# Altium footprint library Package_TO_SOT_THT.PcbLib: 236 footprints (part 6 of 15)
Each footprint in its own frame and in the unit in brackets; x right, y up, seen from the top. Pads: shape width x height; smd on the part's side, far side on the other; paste and mask are expansions set on the pad; w line width, h text height; cw(c..) or ccw(c..) is an arc to the next point about the centre after c.
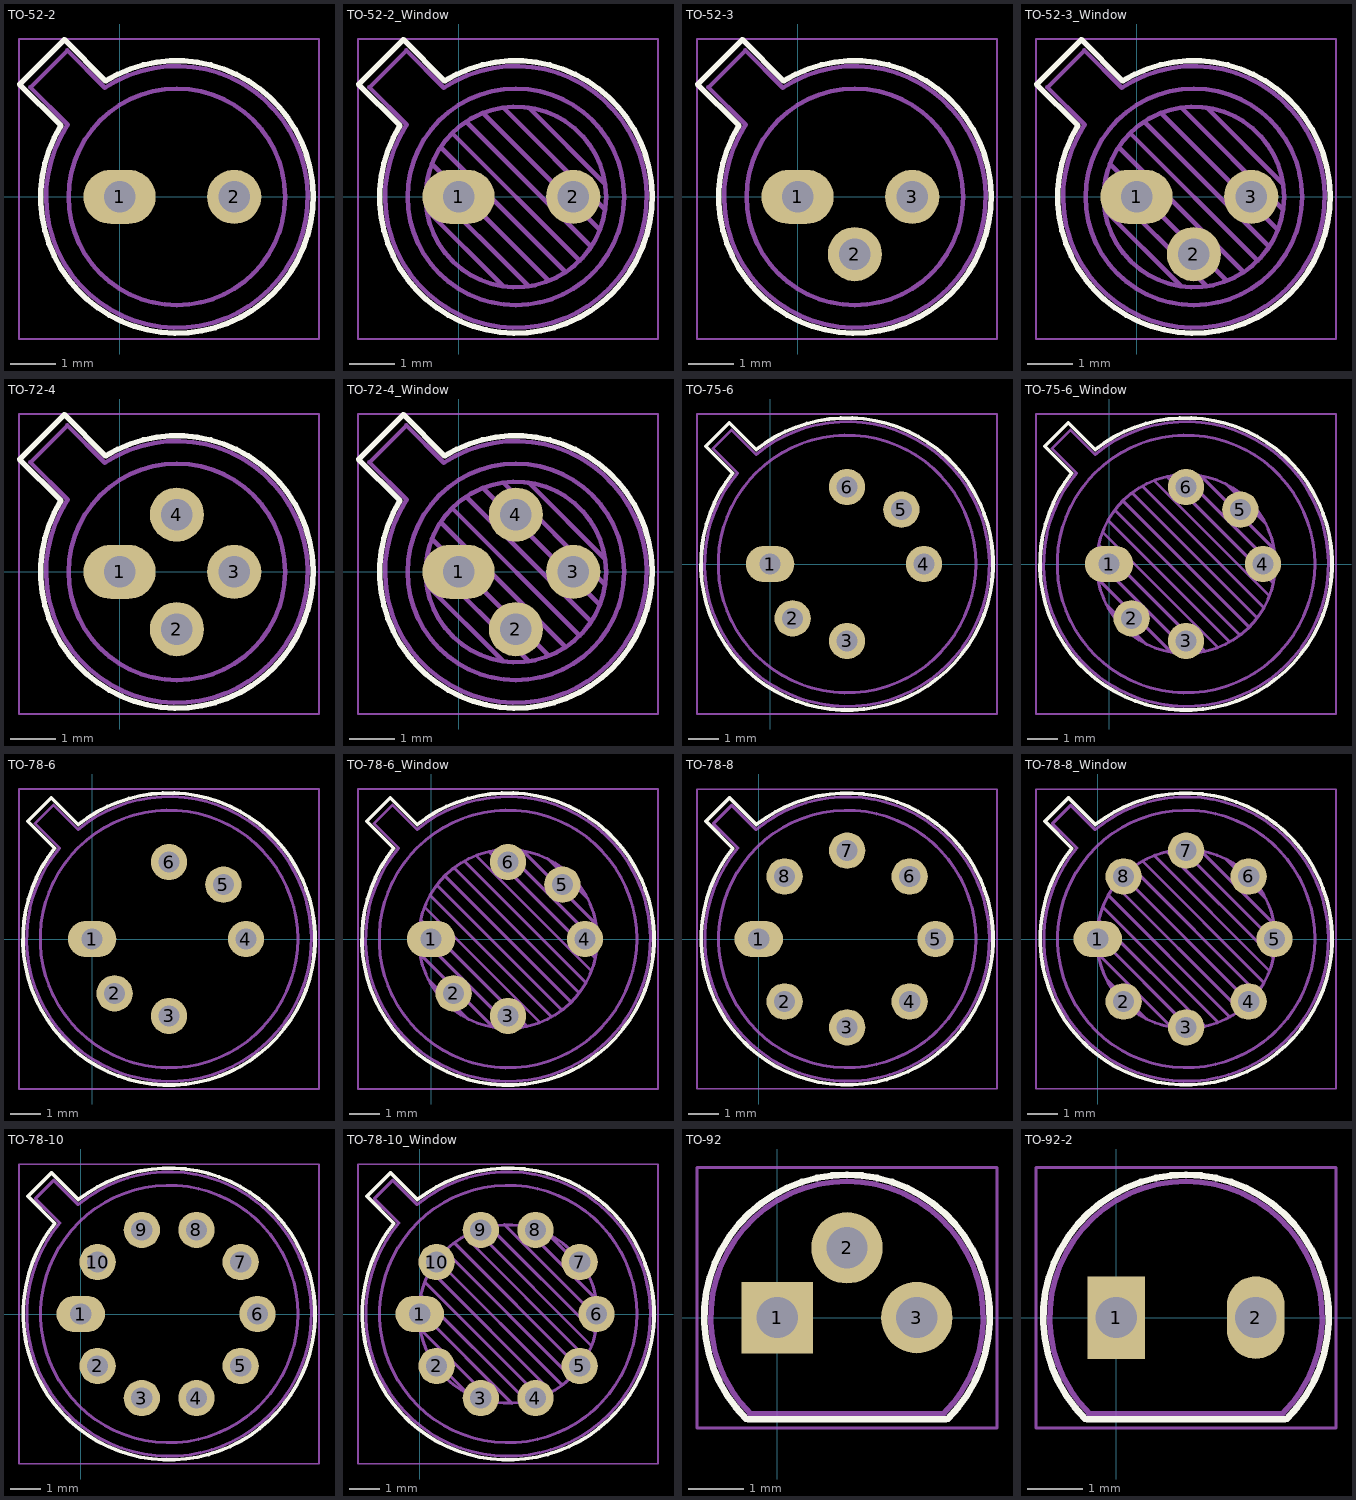
[diagram p5: the footprints below, top view; thin cyan lines are the x and y axes]

## TO-52-2 [mm]
pads (2):
  rrect100% 1.6x1.2 hole 0.7: 1(0,0)
  rrect100% 1.2x1.2 hole 0.7: 2(2.54,0)
F.SilkS:
  lines w0.12: -2.214,2.494 -1.224,3.484 -0.312,2.572 cw(c1.27,0) -1.302,1.583 -2.214,2.494
F.CrtYd:
  lines w0.05: -2.23,-3.15 -2.23,3.5 4.42,3.5 4.42,-3.15 -2.23,-3.15
F.Fab:
  circle w0.1: c1.27,0 r2.4
  lines w0.1: -1.15,1.598 ccw(c1.27,0) -0.329,2.419 -1.156,3.247 -1.977,2.426 -1.149,1.599
  text "'.Designator'" at -2.777,3.18 h1

## TO-52-2_Window [mm]
pads (2):
  rrect100% 1.6x1.2 hole 0.7: 1(0,0)
  rrect100% 1.2x1.2 hole 0.7: 2(2.54,0)
F.SilkS:
  lines w0.12: -2.214,2.494 -1.302,1.582 ccw(c1.27,0) -0.312,2.572 -1.224,3.484 -2.214,2.494
F.CrtYd:
  lines w0.05: -2.23,-3.15 4.42,-3.15 4.42,3.5 -2.23,3.5 -2.23,-3.15
F.Fab:
  circle w0.1: c1.27,0 r2
  circle w0.1: c1.27,0 r2.4
  lines w0.1: -1.15,1.598 ccw(c1.27,0) -0.329,2.419 -1.156,3.247 -1.977,2.426 -1.149,1.599 ; -0.71,-0.283 0.987,-1.98 ; -0.71,0.283 1.553,-1.98 ; -0.592,0.731 2.001,-1.862 ; -0.399,1.103 2.373,-1.669 ; -0.145,1.415 2.685,-1.415 ; 0.167,1.669 2.939,-1.103 ; 0.539,1.862 3.132,-0.731 ; 0.987,1.98 3.25,-0.283 ; 1.553,1.98 3.25,0.283
  text "'.Designator'" at -2.777,3.18 h1

## TO-52-3 [mm]
pads (3):
  rrect100% 1.6x1.2 hole 0.7: 1(0,0)
  rrect100% 1.2x1.2 hole 0.7: 2(1.27,-1.27) 3(2.54,0)
F.SilkS:
  lines w0.12: -2.214,2.494 -1.302,1.582 ccw(c1.27,0) -0.312,2.572 -1.224,3.484 -2.214,2.494
F.CrtYd:
  lines w0.05: -2.23,-3.15 -2.23,3.5 4.42,3.5 4.42,-3.15 -2.23,-3.15
F.Fab:
  circle w0.1: c1.27,0 r2.4
  lines w0.1: -1.15,1.598 ccw(c1.27,0) -0.329,2.419 -1.156,3.247 -1.977,2.426 -1.149,1.599
  text "'.Designator'" at -2.777,3.18 h1

## TO-52-3_Window [mm]
pads (3):
  rrect100% 1.6x1.2 hole 0.7: 1(0,0)
  rrect100% 1.2x1.2 hole 0.7: 2(1.27,-1.27) 3(2.54,0)
F.SilkS:
  lines w0.12: -2.214,2.494 -1.224,3.484 -0.312,2.572 cw(c1.27,0) -1.302,1.583 -2.214,2.494
F.CrtYd:
  lines w0.05: -2.23,-3.15 4.42,-3.15 4.42,3.5 -2.23,3.5 -2.23,-3.15
F.Fab:
  circle w0.1: c1.27,0 r2
  circle w0.1: c1.27,0 r2.4
  lines w0.1: -1.15,1.598 ccw(c1.27,0) -0.329,2.419 -1.156,3.247 -1.977,2.426 -1.149,1.599 ; -0.71,-0.283 0.987,-1.98 ; -0.71,0.283 1.553,-1.98 ; -0.592,0.731 2.001,-1.862 ; -0.399,1.103 2.373,-1.669 ; -0.145,1.415 2.685,-1.415 ; 0.167,1.669 2.939,-1.103 ; 0.539,1.862 3.132,-0.731 ; 0.987,1.98 3.25,-0.283 ; 1.553,1.98 3.25,0.283
  text "'.Designator'" at -2.777,3.18 h1

## TO-72-4 [mm]
pads (4):
  rrect100% 1.6x1.2 hole 0.7: 1(0,0)
  rrect100% 1.2x1.2 hole 0.7: 2(1.27,-1.27) 3(2.54,0) 4(1.27,1.27)
F.SilkS:
  lines w0.12: -2.214,2.494 -1.302,1.582 ccw(c1.27,0) -0.312,2.572 -1.224,3.484 -2.214,2.494
F.CrtYd:
  lines w0.05: -2.23,-3.15 -2.23,3.5 4.42,3.5 4.42,-3.15 -2.23,-3.15
F.Fab:
  circle w0.1: c1.27,0 r2.4
  lines w0.1: -1.15,1.598 ccw(c1.27,0) -0.329,2.419 -1.156,3.247 -1.977,2.426 -1.149,1.599
  text "'.Designator'" at -2.777,3.18 h1

## TO-72-4_Window [mm]
pads (4):
  rrect100% 1.6x1.2 hole 0.7: 1(0,0)
  rrect100% 1.2x1.2 hole 0.7: 2(1.27,-1.27) 3(2.54,0) 4(1.27,1.27)
F.SilkS:
  lines w0.12: -2.214,2.494 -1.224,3.484 -0.312,2.572 cw(c1.27,0) -1.302,1.583 -2.214,2.494
F.CrtYd:
  lines w0.05: -2.23,-3.15 4.42,-3.15 4.42,3.5 -2.23,3.5 -2.23,-3.15
F.Fab:
  circle w0.1: c1.27,0 r2.4
  circle w0.1: c1.27,0 r2
  lines w0.1: -1.15,1.598 ccw(c1.27,0) -0.329,2.419 -1.156,3.247 -1.977,2.426 -1.149,1.599 ; -0.71,-0.283 0.987,-1.98 ; -0.71,0.283 1.553,-1.98 ; -0.592,0.731 2.001,-1.862 ; -0.399,1.103 2.373,-1.669 ; -0.145,1.415 2.685,-1.415 ; 0.167,1.669 2.939,-1.103 ; 0.539,1.862 3.132,-0.731 ; 0.987,1.98 3.25,-0.283 ; 1.553,1.98 3.25,0.283
  text "'.Designator'" at -2.777,3.18 h1

## TO-75-6 [mm]
pads (6):
  rrect100% 1.6x1.2 hole 0.7: 1(0,0)
  rrect100% 1.2x1.2 hole 0.7: 2(0.744,-1.796) 3(2.54,-2.54) 4(5.08,0) 5(4.336,1.796) 6(2.54,2.54)
F.SilkS:
  lines w0.12: -2.126,3.888 -1.348,4.666 -0.457,3.775 cw(c2.54,0) -1.235,2.997 -2.126,3.888
F.CrtYd:
  lines w0.05: -2.41,-4.95 7.49,-4.95 7.49,4.95 -2.41,4.95 -2.41,-4.95
F.Fab:
  circle w0.1: c2.54,0 r4.25
  lines w0.1: -1.88,3.812 -1.272,4.42 -0.465,3.614 cw(c2.54,0) -1.074,3.005 -1.88,3.812
  text "'.Designator'" at -1.507,4.98 h1

## TO-75-6_Window [mm]
pads (6):
  rrect100% 1.6x1.2 hole 0.7: 1(0,0)
  rrect100% 1.2x1.2 hole 0.7: 2(0.744,-1.796) 3(2.54,-2.54) 4(5.08,0) 5(4.336,1.796) 6(2.54,2.54)
F.SilkS:
  lines w0.12: -2.126,3.888 -1.235,2.997 ccw(c2.54,0) -0.457,3.775 -1.348,4.666 -2.126,3.888
F.CrtYd:
  lines w0.05: -2.41,-4.95 7.49,-4.95 7.49,4.95 -2.41,4.95 -2.41,-4.95
F.Fab:
  circle w0.1: c2.54,0 r2.95
  circle w0.1: c2.54,0 r4.25
  lines w0.1: -0.408,0.12 2.66,-2.948 ; -0.371,-0.485 2.055,-2.911 ; -0.344,0.622 3.162,-2.884 ; -0.215,1.058 3.598,-2.755 ; -0.097,-1.324 1.216,-2.637 ; -0.034,1.443 3.983,-2.574 ; 0.19,1.784 4.324,-2.35 ; 0.454,2.086 4.626,-2.086 ; 0.756,2.35 4.89,-1.784 ; 1.097,2.574 5.114,-1.443 ; 1.482,2.755 5.295,-1.058 ; 1.918,2.884 5.424,-0.622 ; 2.42,2.948 5.488,-0.12 ; 3.025,2.911 5.451,0.485 ; 3.864,2.637 5.177,1.324 ; -1.88,3.812 -1.074,3.005 ccw(c2.54,0) -0.465,3.614 -1.272,4.42 -1.88,3.812
  text "'.Designator'" at -1.507,4.98 h1

## TO-78-6 [mm]
pads (6):
  rrect100% 1.6x1.2 hole 0.7: 1(0,0)
  rrect100% 1.2x1.2 hole 0.7: 2(0.744,-1.796) 3(2.54,-2.54) 4(5.08,0) 5(4.336,1.796) 6(2.54,2.54)
F.SilkS:
  lines w0.12: -2.126,3.888 -1.235,2.997 ccw(c2.54,0) -0.457,3.775 -1.348,4.666 -2.126,3.888
F.CrtYd:
  lines w0.05: -2.41,-4.95 -2.41,4.95 7.49,4.95 7.49,-4.95 -2.41,-4.95
F.Fab:
  circle w0.1: c2.54,0 r4.25
  lines w0.1: -1.88,3.812 -1.074,3.005 ccw(c2.54,0) -0.465,3.614 -1.272,4.42 -1.88,3.812
  text "'.Designator'" at -1.507,4.98 h1

## TO-78-6_Window [mm]
pads (6):
  rrect100% 1.6x1.2 hole 0.7: 1(0,0)
  rrect100% 1.2x1.2 hole 0.7: 2(0.744,-1.796) 3(2.54,-2.54) 4(5.08,0) 5(4.336,1.796) 6(2.54,2.54)
F.SilkS:
  lines w0.12: -2.126,3.888 -1.348,4.666 -0.457,3.775 cw(c2.54,0) -1.235,2.997 -2.126,3.888
F.CrtYd:
  lines w0.05: -2.41,-4.95 -2.41,4.95 7.49,4.95 7.49,-4.95 -2.41,-4.95
F.Fab:
  circle w0.1: c2.54,0 r2.95
  circle w0.1: c2.54,0 r4.25
  lines w0.1: -0.408,0.12 2.66,-2.948 ; -0.371,-0.485 2.055,-2.911 ; -0.344,0.622 3.162,-2.884 ; -0.215,1.058 3.598,-2.755 ; -0.097,-1.324 1.216,-2.637 ; -0.034,1.443 3.983,-2.574 ; 0.19,1.784 4.324,-2.35 ; 0.454,2.086 4.626,-2.086 ; 0.756,2.35 4.89,-1.784 ; 1.097,2.574 5.114,-1.443 ; 1.482,2.755 5.295,-1.058 ; 1.918,2.884 5.424,-0.622 ; 2.42,2.948 5.488,-0.12 ; 3.025,2.911 5.451,0.485 ; 3.864,2.637 5.177,1.324 ; -1.88,3.812 -1.272,4.42 -0.465,3.614 cw(c2.54,0) -1.074,3.005 -1.88,3.812
  text "'.Designator'" at -1.507,4.98 h1

## TO-78-8 [mm]
pads (8):
  rrect100% 1.6x1.2 hole 0.7: 1(0,0)
  rrect100% 1.2x1.2 hole 0.7: 2(0.855,-2.065) 3(2.92,-2.92) 4(4.985,-2.065) 5(5.84,0) 6(4.985,2.065) 7(2.92,2.92) 8(0.855,2.065)
F.SilkS:
  lines w0.12: -1.746,3.888 -0.855,2.997 ccw(c2.92,0) -0.077,3.775 -0.968,4.666 -1.746,3.888
F.CrtYd:
  lines w0.05: -2.04,-4.95 7.87,-4.95 7.87,4.95 -2.04,4.95 -2.04,-4.95
F.Fab:
  circle w0.1: c2.92,0 r4.25
  lines w0.1: -1.5,3.812 -0.694,3.005 ccw(c2.92,0) -0.085,3.614 -0.892,4.42 -1.5,3.812
  text "'.Designator'" at -1.127,4.98 h1

## TO-78-8_Window [mm]
pads (8):
  rrect100% 1.6x1.2 hole 0.7: 1(0,0)
  rrect100% 1.2x1.2 hole 0.7: 2(0.855,-2.065) 3(2.92,-2.92) 4(4.985,-2.065) 5(5.84,0) 6(4.985,2.065) 7(2.92,2.92) 8(0.855,2.065)
F.SilkS:
  lines w0.12: -1.746,3.888 -0.968,4.666 -0.077,3.775 cw(c2.92,0) -0.855,2.997 -1.746,3.888
F.CrtYd:
  lines w0.05: -2.04,-4.95 -2.04,4.95 7.87,4.95 7.87,-4.95 -2.04,-4.95
F.Fab:
  circle w0.1: c2.92,0 r2.95
  circle w0.1: c2.92,0 r4.25
  lines w0.1: -0.028,0.12 3.04,-2.948 ; 0.009,-0.485 2.435,-2.911 ; 0.036,0.622 3.542,-2.884 ; 0.165,1.058 3.978,-2.755 ; 0.283,-1.324 1.596,-2.637 ; 0.346,1.443 4.363,-2.574 ; 0.57,1.784 4.704,-2.35 ; 0.834,2.086 5.006,-2.086 ; 1.136,2.35 5.27,-1.784 ; 1.477,2.574 5.494,-1.443 ; 1.862,2.755 5.675,-1.058 ; 2.298,2.884 5.804,-0.622 ; 2.8,2.948 5.868,-0.12 ; 3.405,2.911 5.831,0.485 ; 4.244,2.637 5.557,1.324 ; -1.5,3.812 -0.892,4.42 -0.085,3.614 cw(c2.92,0) -0.694,3.005 -1.5,3.812
  text "'.Designator'" at -1.127,4.98 h1

## TO-78-10 [mm]
pads (10):
  rrect100% 1.6x1.2 hole 0.7: 1(0,0)
  rrect100% 1.2x1.2 hole 0.7: 2(0.558,-1.716) 3(2.018,-2.777) 4(3.822,-2.777) 5(5.282,-1.716) 6(5.84,0) 7(5.282,1.716) 8(3.822,2.777) 9(2.018,2.777) 10(0.558,1.716)
F.SilkS:
  lines w0.12: -1.746,3.888 -0.855,2.997 ccw(c2.92,0) -0.077,3.775 -0.968,4.666 -1.746,3.888
F.CrtYd:
  lines w0.05: -2.04,-4.95 -2.04,4.95 7.87,4.95 7.87,-4.95 -2.04,-4.95
F.Fab:
  circle w0.1: c2.92,0 r4.25
  lines w0.1: -1.5,3.812 -0.892,4.42 -0.085,3.614 cw(c2.92,0) -0.694,3.005 -1.5,3.812
  text "'.Designator'" at -1.127,4.98 h1

## TO-78-10_Window [mm]
pads (10):
  rrect100% 1.6x1.2 hole 0.7: 1(0,0)
  rrect100% 1.2x1.2 hole 0.7: 2(0.558,-1.716) 3(2.018,-2.777) 4(3.822,-2.777) 5(5.282,-1.716) 6(5.84,0) 7(5.282,1.716) 8(3.822,2.777) 9(2.018,2.777) 10(0.558,1.716)
F.SilkS:
  lines w0.12: -1.746,3.888 -0.855,2.997 ccw(c2.92,0) -0.077,3.775 -0.968,4.666 -1.746,3.888
F.CrtYd:
  lines w0.05: -2.04,-4.95 -2.04,4.95 7.87,4.95 7.87,-4.95 -2.04,-4.95
F.Fab:
  circle w0.1: c2.92,0 r4.25
  circle w0.1: c2.92,0 r2.95
  lines w0.1: -0.028,0.12 3.04,-2.948 ; 0.009,-0.485 2.435,-2.911 ; 0.036,0.622 3.542,-2.884 ; 0.165,1.058 3.978,-2.755 ; 0.283,-1.324 1.596,-2.637 ; 0.346,1.443 4.363,-2.574 ; 0.57,1.784 4.704,-2.35 ; 0.834,2.086 5.006,-2.086 ; 1.136,2.35 5.27,-1.784 ; 1.477,2.574 5.494,-1.443 ; 1.862,2.755 5.675,-1.058 ; 2.298,2.884 5.804,-0.622 ; 2.8,2.948 5.868,-0.12 ; 3.405,2.911 5.831,0.485 ; 4.244,2.637 5.557,1.324 ; -1.5,3.812 -0.892,4.42 -0.085,3.614 cw(c2.92,0) -0.694,3.005 -1.5,3.812
  text "'.Designator'" at -1.127,4.98 h1

## TO-92 [mm]
pads (3):
  rect 1.3x1.3 hole 0.75: 1(0,0)
  round 1.3 hole 0.75: 2(1.27,1.27) 3(2.54,0)
F.SilkS:
  lines w0.12: -0.568,-1.838 cw(c1.27,0) 1.27,2.6 cw(c1.27,0) 3.108,-1.838 ; -0.53,-1.85 3.07,-1.85
F.CrtYd:
  lines w0.05: -1.46,-2.01 -1.46,2.73 4,2.73 4,-2.01 -1.46,-2.01
F.Fab:
  lines w0.1: -0.5,-1.75 3,-1.75 ; -0.484,-1.754 cw(c1.27,0) 1.27,2.48 cw(c1.27,0) 3.024,-1.754
  text "'.Designator'" at -2.777,-0.84 h1

## TO-92-2 [mm]
pads (2):
  rect 1.05x1.5 hole 0.75: 1(0,0)
  rrect100% 1.05x1.5 hole 0.75: 2(2.54,0)
F.SilkS:
  lines w0.12: -0.568,-1.838 cw(c1.27,0) 1.27,2.6 cw(c1.27,0) 3.108,-1.838 ; -0.53,-1.85 3.07,-1.85
F.CrtYd:
  lines w0.05: -1.46,-2.01 4,-2.01 4,2.73 -1.46,2.73 -1.46,-2.01
F.Fab:
  lines w0.1: -0.5,-1.75 3,-1.75 ; -0.484,-1.754 cw(c1.27,0) 1.27,2.48 cw(c1.27,0) 3.024,-1.754
  text "'.Designator'" at -2.777,-0.84 h1